# Altium schematic symbol library YTschlib.SchLib: 42 symbols
Pins are listed as number, name and electrical type; pins without a type are passive.

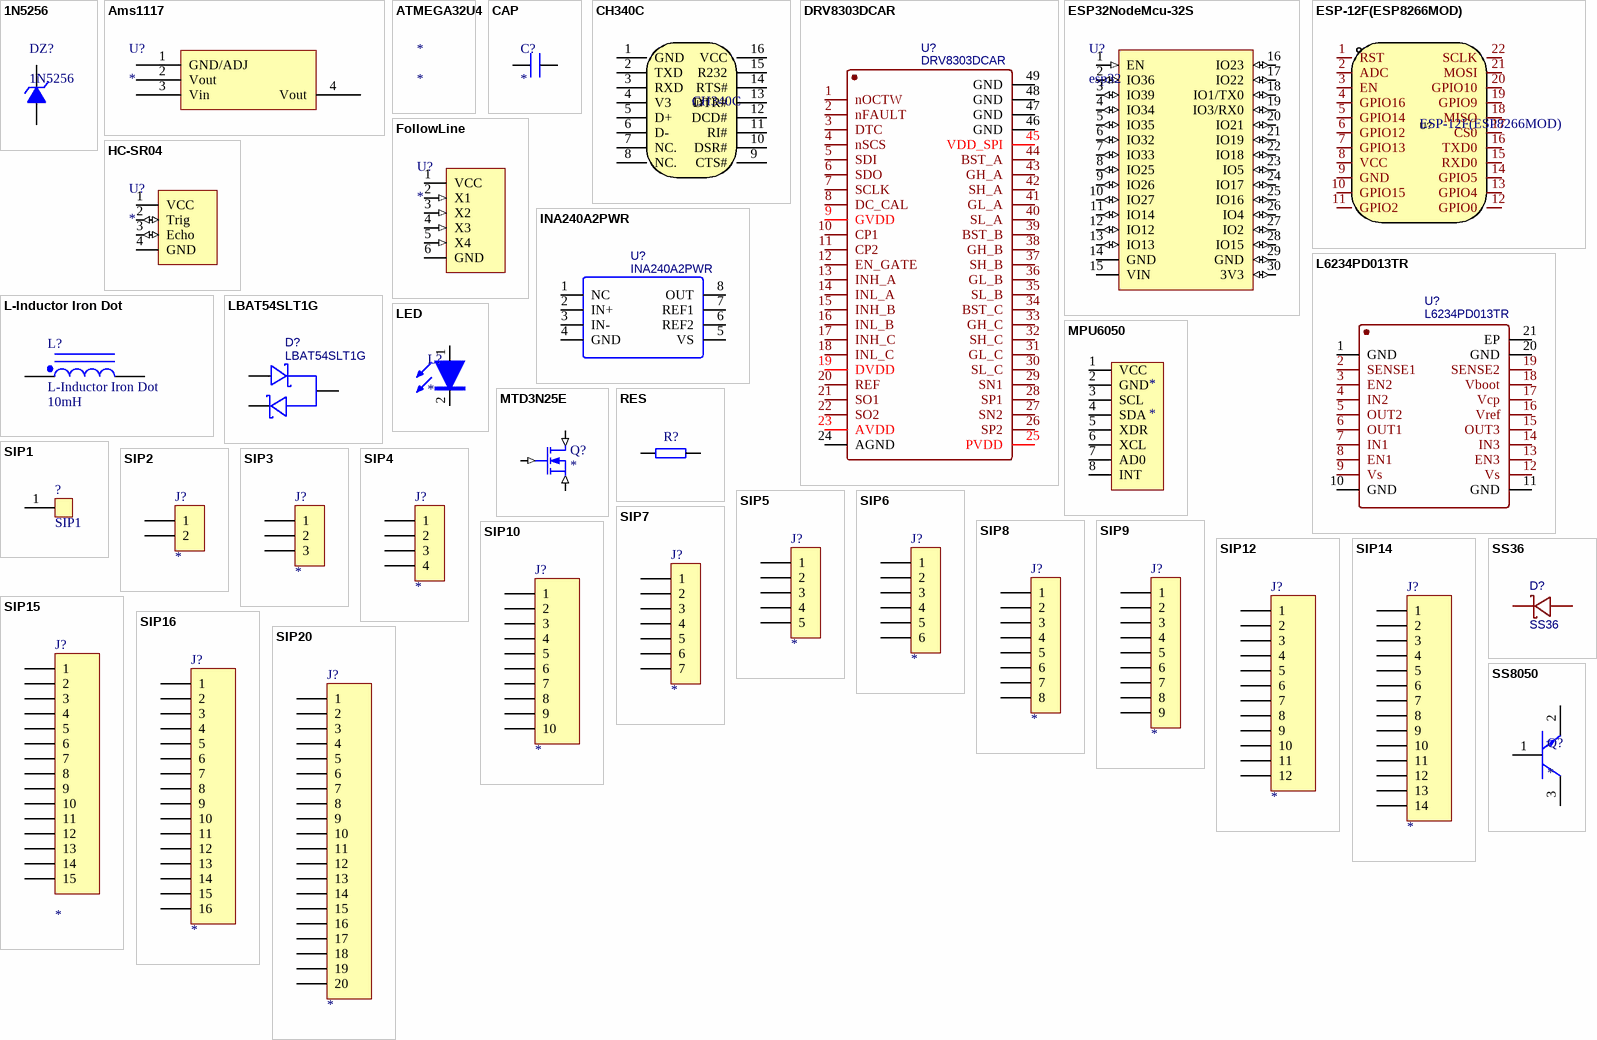
[diagram p0: symbols 1N5256 to SS8050]

## 1N5256
designator DZ?
30V/0.5W稳压管; 版权归属: 源创客; BOM名称: 30V/0.5W稳压管; 学习资源: www.ooocke.com
footprint DO-35 (1.8*6.8mm(直径，脚距）)
footprint DO-213AA (1.5*3.5mm(直径，脚距）)
footprint DO-35V (1.8*2.5mm(直径，脚距）)
pins: 1 A, 2 K

## Ams1117
designator U?
footprint SOT223
pins: 1 GND/ADJ (power), 2 Vout (power), 3 Vin (power), 4 Vout (power)

## ATMEGA32U4
designator *

## CAP
designator C?
电容
pins: 1, 2

## CH340C
designator U?
Manufacturer: WCH(南京沁恒); Add into BOM: yes; Applications Function: Transceiver; Protocol: USB 2.0; Data Rate: 2Mbps; Supply Voltage: 3.3V；5V; Name: CH340C; Symbol: CH340C; Device: CH340C; LCSC Part Name: CH340C; Supplier Part: C84681; Manufacturer Part: CH340C; Supplier Footprint: SOP-16; JLCPCB Part Class: Extended Part; Datasheet: https://atta.szlcsc.com/upload/public/pdf/source/20200819/C84681_ADBED554CE321879DBD6B1D06488689C.pdf; Supplier: LCSC; Convert to PCB: yes
footprint SOP-16_L10.0-W3.9-P1.27-LS6.0-BL
3D model SOP-16_L9.9-W3.9-H1.5-LS6.0-P1.27
pins: 1 GND, 2 TXD, 3 RXD, 4 V3, 5 D+, 6 D-, 7 NC., 8 NC., 9 CTS#, 10 DSR#, 11 RI#, 12 DCD#, 13 DTR#, 14 RTS#, 15 R232, 16 VCC

## DRV8303DCAR
designator U?
BOM_Manufacturer: TI(德州仪器); Contributor: LCSC; BOM_Supplier: LCSC; BOM_Supplier Part: C91880; BOM_Manufacturer Part: DRV8303DCAR; BOM_JLCPCB Part Class: Extended Part; spicePre: U; spiceSymbolName: DRV8303DCAR
footprint HTSSOP-48_L12.5-W6.1-P0.50-LS8.1-BL-EP
pins: 1 nOCTW, 2 nFAULT, 3 DTC, 4 nSCS, 5 SDI, 6 SDO, 7 SCLK, 8 DC_CAL, 9 GVDD, 10 CP1, 11 CP2, 12 EN_GATE, 13 INH_A, 14 INL_A, 15 INH_B, 16 INL_B, 17 INH_C, 18 INL_C, 19 DVDD, 20 REF, 21 SO1, 22 SO2, 23 AVDD, 24 AGND, 25 PVDD, 26 SP2, 27 SN2, 28 SP1, 29 SN1, 30 SL_C, 31 GL_C, 32 SH_C, 33 GH_C, 34 BST_C, 35 SL_B, 36 GL_B, 37 SH_B, 38 GH_B, 39 BST_B, 40 SL_A, 41 GL_A, 42 SH_A, 43 GH_A, 44 BST_A, 45 VDD_SPI, 46 GND, 47 GND, 48 GND, 49 GND

## ESP32NodeMcu-32S
designator U?, comment esp32
footprint ESP32
pins: 1 EN (in), 2 IO36 (io), 3 IO39 (io), 4 IO34 (io), 5 IO35 (io), 6 IO32 (io), 7 IO33 (io), 8 IO25 (io), 9 IO26 (io), 10 IO27 (io), 11 IO14 (io), 12 IO12 (io), 13 IO13 (io), 14 GND (power), 15 VIN (power), 16 IO23 (io), 17 IO22 (io), 18 IO1/TX0 (io), 19 IO3/RX0 (io), 20 IO21 (io), 21 IO19 (io), 22 IO18 (io), 23 IO5 (io), 24 IO17 (io), 25 IO16 (io), 26 IO4 (io), 27 IO2 (io), 28 IO15 (io), 29 GND (io), 30 3V3 (io)

## ESP-12F(ESP8266MOD)
designator U?
Manufacturer: Ai-Thinker(安信可); Name: 2.4GHz; Add into BOM: yes; Value: 2.4GHz; Output Power: 16dBm; Support Interface: GPIO；UART；IIC；PWM；SPI；ADC; Antenna Type: PCB 板载天线; Wireless Standard: 802.11b/g/n; Operating Voltage: 3.3V; Receive  Current: 120mA; Send  Current: 170mA; Sensitivity: -90dBm; Symbol: ESP-12F(ESP8266MOD); Device: ESP-12F(ESP8266MOD); LCSC Part Name: ESP-12F(ESP8266MOD); Supplier Part: C82891; Manufacturer Part: ESP-12F(ESP8266MOD); Supplier Footprint: WIFI Module; JLCPCB Part Class: Extended Part; Datasheet: https://atta.szlcsc.com/upload/public/pdf/source/20210219/C82891_ABD84A460F4F056A2757267CCCA4B508.pdf; Supplier: LCSC; Convert to PCB: yes; Core Processor: ESP8266; Operating Temperature: -40℃~+85℃
footprint WIFIM-SMD_ESP-12F-ESP8266MOD
3D model WIFIM-SMD_WIFI-L24.0-W16.0-H3.1
pins: 1 RST, 2 ADC, 3 EN, 4 GPIO16, 5 GPIO14, 6 GPIO12, 7 GPIO13, 8 VCC, 9 GND, 10 GPIO15, 11 GPIO2, 12 GPIO0, 13 GPIO4, 14 GPIO5, 15 RXD0, 16 TXD0, 17 CS0, 18 MISO, 19 GPIO9, 20 GPIO10, 21 MOSI, 22 SCLK

## FollowLine
designator U?
footprint XH2.54-WS-6P (长：20mm，宽：8mm，高：6.1mm)
pins: 1 VCC (power), 2 X1 (in), 3 X2 (in), 4 X3 (in), 5 X4 (in), 6 GND (power)

## HC-SR04
designator U?
pins: 1 VCC (power), 2 Trig (io), 3 Echo (io), 4 GND (power)

## INA240A2PWR
designator U?
BOM_Manufacturer: TI; Contributor: LCSC; BOM_Paste Type: expand; BOM_Supplier: LCSC; BOM_Manufacturer Part: INA240A2PWR; BOM_Supplier Part: C129949; spicePre: U; spiceSymbolName: INA240A2PWR
footprint TSSOP-8_L4.4-W3.0-P0.65-LS6.4-BL
pins: 1 NC, 2 IN+, 3 IN-, 4 GND, 5 VS, 6 REF2, 7 REF1, 8 OUT

## L6234PD013TR
designator U?
BOM_Manufacturer: STMicroelectronics; BOM_Supplier: LCSC; BOM_Manufacturer Part: L6234PD013TR; BOM_Supplier Part: C77581; spicePre: U; spiceSymbolName: L6234PD013TR
footprint POWERSO20_L15.9-W11.0-P1.27-LS14.2-BL-EP
pins: 1 GND, 2 SENSE1, 3 EN2, 4 IN2, 5 OUT2, 6 OUT1, 7 IN1, 8 EN1, 9 Vs, 10 GND, 11 GND, 12 Vs, 13 EN3, 14 IN3, 15 OUT3, 16 Vref, 17 Vcp, 18 Vboot, 19 SENSE2, 20 GND, 21 EP

## L-Inductor Iron Dot
designator L?  value 10mH
Magnetic-Core Inductor with Winding Polarity Marking; Published: 24-Mar-1999; LatestRevisionDate: 17-Jul-2002; LatestRevisionNote: Re-released for DXP Platform.; PackageReference: DIODE_SMC; Publisher: Altium Limited
footprint DIODE_SMC (Magnetic-Core Inductor with Winding Polarity Marking; 2 Leads)
signal-integrity model Inductor Iron Dot
pins: 1, 2

## LBAT54SLT1G
designator D?
BOM_Manufacturer: LRC; SMT Type: Extend; BOM_Supplier: LCSC; BOM_Manufacturer Part: LBAT54SLT1G; image: //image.lceda.cn/szlcsc/C12765.jpg; BOM_Supplier Part: C12765; BOM_JLCPCB SMD: Yes; spicePre: D; spiceSymbolName: LBAT54SLT1G
footprint SOT23-3
pins: 1 A, 2 K, 3 AK

## LED
designator L?
pins: 1, 2

## MPU6050
designator *
pins: 1 VCC, 2 GND, 3 SCL, 4 SDA, 5 XDR, 6 XCL, 7 AD0, 8 INT

## MTD3N25E
designator Q?
N-Channel MOSFET
simulation model MTD3N25E (SUBCKT)
pins: 1 D (in), 2 G (in), 3 S (in)
1 alternate drawing of the same symbol

## RES
designator R?
电阻
footprint 0402R (Footprint not found)
pins: 1, 2

## SIP1
designator ?
Variable Resistor; Set Position: 0.5; Published: 8-Jun-2000; LatestRevisionDate: 17-Jul-2002; LatestRevisionNote: Re-released for DXP Platform.; PackageReference: AXIAL-0.6; Publisher: Altium Limited
footprint AXIAL-0.6 (Variable Resistor; 2 Leads)
simulation model VRES (Variable Resistor)
signal-integrity model Res Adj
pins: 1

## SIP2
designator J?
jointbar
footprint XH2.54-WS-2P (长：10mm，宽：8mm，高：6.1mm)
pins: 1, 2

## SIP3
designator J?
jointbar
footprint SIP3-2.0
footprint SIP3-2.54 (Footprint not found)
pins: 1, 2, 3

## SIP4
designator J?
jointbar
footprint SIP4-2.0
footprint SIP4-2.54
pins: 1, 2, 3, 4

## SIP5
designator J?
jointbar
footprint SIP5-2.0
footprint SIP5-2.54
pins: 1, 2, 3, 4, 5

## SIP6
designator J?
jointbar
footprint SIP6-2.0
footprint SIP6-2.54
pins: 1, 2, 3, 4, 5, 6

## SIP7
designator J?
jointbar
footprint SIP7-2.0
footprint SIP7-2.54
pins: 1, 2, 3, 4, 5, 6, 7

## SIP8
designator J?
jointbar
footprint SIP8-2.0
footprint SIP8-2.54
pins: 1, 2, 3, 4, 5, 6, 7, 8

## SIP9
designator J?
jointbar
footprint SIP9-2.0
footprint SIP9-2.54
pins: 1, 2, 3, 4, 5, 6, 7, 8, 9

## SIP10
designator J?
jointbar
footprint SIP10-2.54
pins: 1, 2, 3, 4, 5, 6, 7, 8, 9, 10

## SIP12
designator J?
jointbar
footprint SIP12-2.54
pins: 1, 2, 3, 4, 5, 6, 7, 8, 9, 10, 11, 12

## SIP14
designator J?
jointbar
footprint SIP14-2.54
pins: 1, 2, 3, 4, 5, 6, 7, 8, 9, 10, 11, 12, 13, 14

## SIP15
designator J?
jointbar
footprint SIP16-2.54
pins: 1, 2, 3, 4, 5, 6, 7, 8, 9, 10, 11, 12, 13, 14, 15

## SIP16
designator J?
jointbar
footprint SIP16-2.54
pins: 1, 2, 3, 4, 5, 6, 7, 8, 9, 10, 11, 12, 13, 14, 15, 16

## SIP20
designator J?
jointbar
footprint SIP20-2.54
pins: 1, 2, 3, 4, 5, 6, 7, 8, 9, 10, 11, 12, 13, 14, 15, 16, 17, 18, 19, 20

## SS36
designator D?
BOM_Manufacturer: MDD; BOM_Paste Type: expand; BOM_Supplier: LCSC; BOM_Manufacturer Part: SS36; image: //image.lceda.cn/szlcsc/C16015.jpg; BOM_Supplier Part: C16015; spicePre: D; spiceSymbolName: SS36
footprint SMA_L4.3-W2.6-LS5.2-RD
pins: 1 K, 2 A

## SS8050
designator Q?
pins: 1 B, 2 E, 3 C

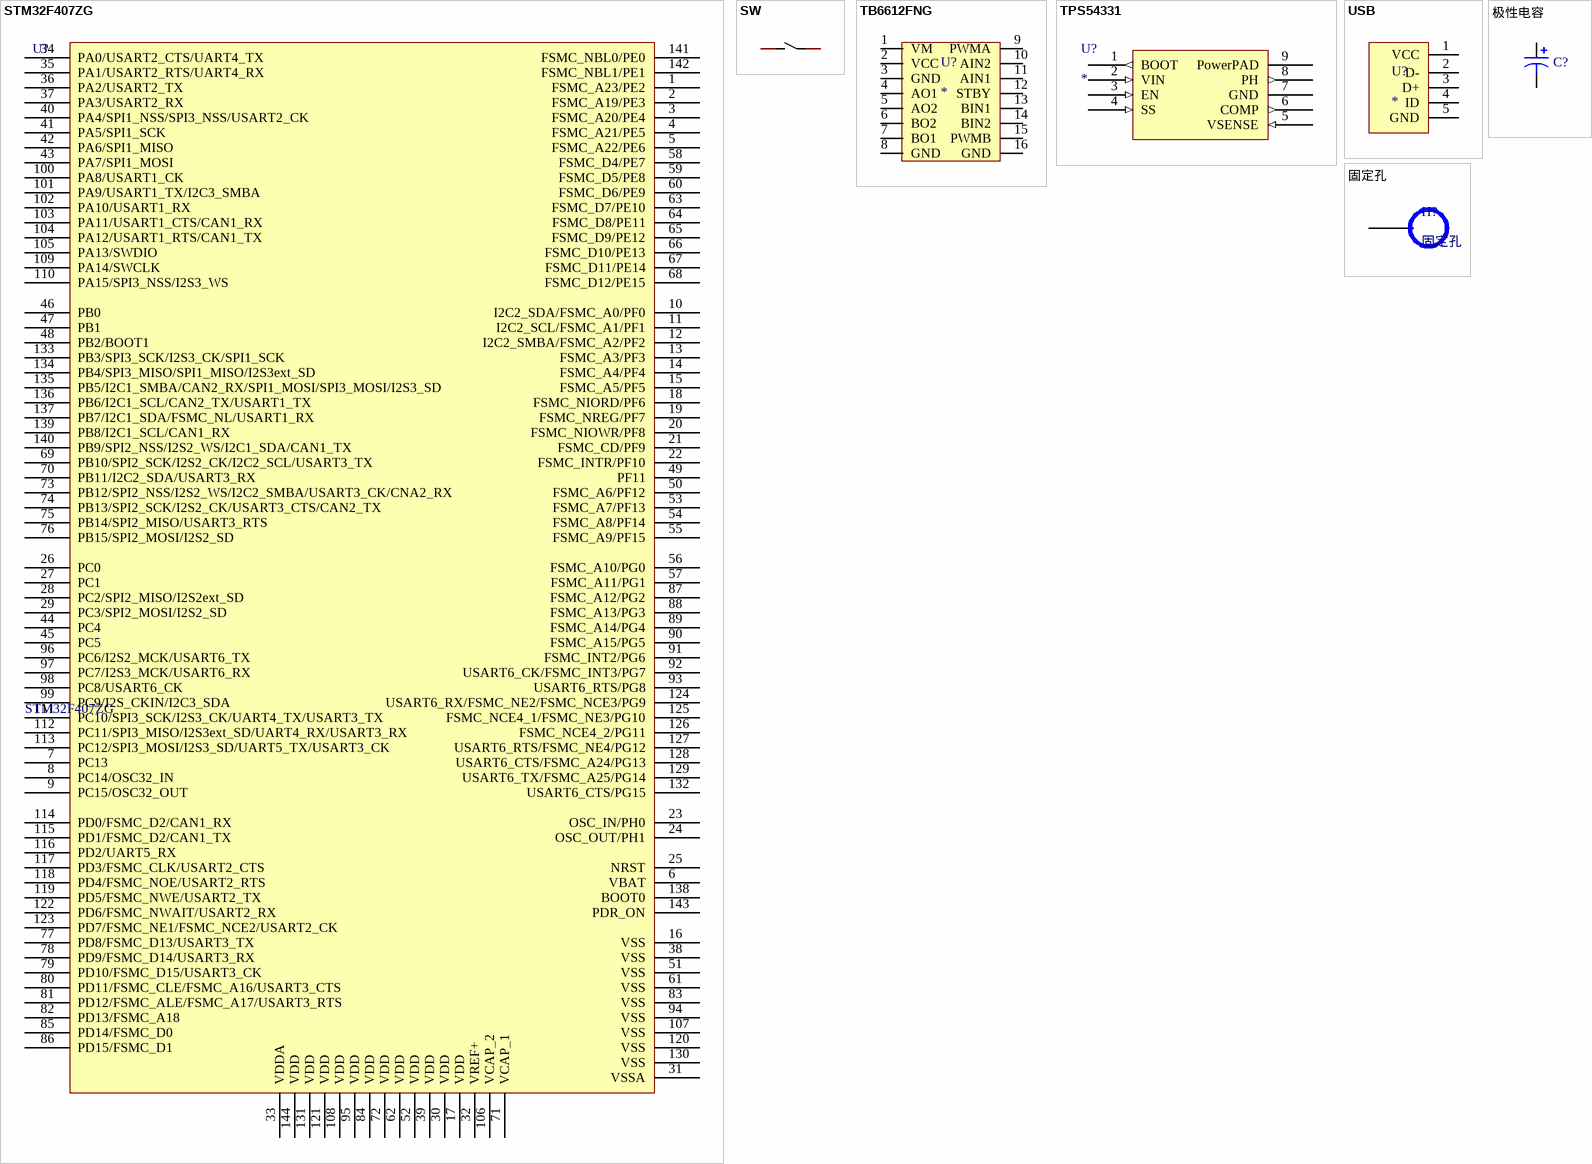
[diagram p1: symbols STM32F407ZG to 极性电容]

## STM32F407ZG
designator U?
Flaah:1024/RAM:192/IO:114; BOM名称: 32位ST单片机; 版权归属: 源创客; 学习资源: www.ooocke.com
footprint LQFP144 20X20_L (144脚，体宽20x20mm，脚距0.5mm)
footprint LQFP144 20X20_M (144脚，体宽20x20mm，脚距0.5mm)
footprint LQFP144 20X20_N (144脚，体宽20x20mm，脚距0.5mm)
pins: 1 FSMC_A23/PE2, 2 FSMC_A19/PE3, 3 FSMC_A20/PE4, 4 FSMC_A21/PE5, 5 FSMC_A22/PE6, 6 VBAT, 7 PC13, 8 PC14/OSC32_IN, 9 PC15/OSC32_OUT, 10 I2C2_SDA/FSMC_A0/PF0, 11 I2C2_SCL/FSMC_A1/PF1, 12 I2C2_SMBA/FSMC_A2/PF2, 13 FSMC_A3/PF3, 14 FSMC_A4/PF4, 15 FSMC_A5/PF5, 16 VSS, 17 VDD, 18 FSMC_NIORD/PF6, 19 FSMC_NREG/PF7, 20 FSMC_NIOWR/PF8, 21 FSMC_CD/PF9, 22 FSMC_INTR/PF10, 23 OSC_IN/PH0, 24 OSC_OUT/PH1, 25 NRST, 26 PC0, 27 PC1, 28 PC2/SPI2_MISO/I2S2ext_SD, 29 PC3/SPI2_MOSI/I2S2_SD, 30 VDD, 31 VSSA, 32 VREF+, 33 VDDA, 34 PA0/USART2_CTS/UART4_TX, 35 PA1/USART2_RTS/UART4_RX, 36 PA2/USART2_TX, 37 PA3/USART2_RX, 38 VSS, 39 VDD, 40 PA4/SPI1_NSS/SPI3_NSS/USART2_CK, 41 PA5/SPI1_SCK, 42 PA6/SPI1_MISO, 43 PA7/SPI1_MOSI, 44 PC4, 45 PC5, 46 PB0, 47 PB1, 48 PB2/BOOT1, 49 PF11, 50 FSMC_A6/PF12, 51 VSS, 52 VDD, 53 FSMC_A7/PF13, 54 FSMC_A8/PF14, 55 FSMC_A9/PF15, 56 FSMC_A10/PG0, 57 FSMC_A11/PG1, 58 FSMC_D4/PE7, 59 FSMC_D5/PE8, 60 FSMC_D6/PE9, 61 VSS, 62 VDD, 63 FSMC_D7/PE10, 64 FSMC_D8/PE11, 65 FSMC_D9/PE12, 66 FSMC_D10/PE13, 67 FSMC_D11/PE14, 68 FSMC_D12/PE15, 69 PB10/SPI2_SCK/I2S2_CK/I2C2_SCL/USART3_TX, 70 PB11/I2C2_SDA/USART3_RX, 71 VCAP_1, 72 VDD, 73 PB12/SPI2_NSS/I2S2_WS/I2C2_SMBA/USART3_CK/CNA2_RX, 74 PB13/SPI2_SCK/I2S2_CK/USART3_CTS/CAN2_TX, 75 PB14/SPI2_MISO/USART3_RTS, 76 PB15/SPI2_MOSI/I2S2_SD, 77 PD8/FSMC_D13/USART3_TX, 78 PD9/FSMC_D14/USART3_RX, 79 PD10/FSMC_D15/USART3_CK, 80 PD11/FSMC_CLE/FSMC_A16/USART3_CTS, 81 PD12/FSMC_ALE/FSMC_A17/USART3_RTS, 82 PD13/FSMC_A18, 83 VSS, 84 VDD, 85 PD14/FSMC_D0, 86 PD15/FSMC_D1, 87 FSMC_A12/PG2, 88 FSMC_A13/PG3, 89 FSMC_A14/PG4, 90 FSMC_A15/PG5, 91 FSMC_INT2/PG6, 92 USART6_CK/FSMC_INT3/PG7, 93 USART6_RTS/PG8, 94 VSS, 95 VDD, 96 PC6/I2S2_MCK/USART6_TX, 97 PC7/I2S3_MCK/USART6_RX, 98 PC8/USART6_CK, 99 PC9/I2S_CKIN/I2C3_SDA, 100 PA8/USART1_CK, 101 PA9/USART1_TX/I2C3_SMBA, 102 PA10/USART1_RX, 103 PA11/USART1_CTS/CAN1_RX, 104 PA12/USART1_RTS/CAN1_TX, 105 PA13/SWDIO, 106 VCAP_2, 107 VSS, 108 VDD, 109 PA14/SWCLK, 110 PA15/SPI3_NSS/I2S3_WS, 111 PC10/SPI3_SCK/I2S3_CK/UART4_TX/USART3_TX, 112 PC11/SPI3_MISO/I2S3ext_SD/UART4_RX/USART3_RX, 113 PC12/SPI3_MOSI/I2S3_SD/UART5_TX/USART3_CK, 114 PD0/FSMC_D2/CAN1_RX, 115 PD1/FSMC_D2/CAN1_TX, 116 PD2/UART5_RX, 117 PD3/FSMC_CLK/USART2_CTS, 118 PD4/FSMC_NOE/USART2_RTS, 119 PD5/FSMC_NWE/USART2_TX, 120 VSS, 121 VDD, 122 PD6/FSMC_NWAIT/USART2_RX, 123 PD7/FSMC_NE1/FSMC_NCE2/USART2_CK, 124 USART6_RX/FSMC_NE2/FSMC_NCE3/PG9, 125 FSMC_NCE4_1/FSMC_NE3/PG10, 126 FSMC_NCE4_2/PG11, 127 USART6_RTS/FSMC_NE4/PG12, 128 USART6_CTS/FSMC_A24/PG13, 129 USART6_TX/FSMC_A25/PG14, 130 VSS, 131 VDD, 132 USART6_CTS/PG15, 133 PB3/SPI3_SCK/I2S3_CK/SPI1_SCK, 134 PB4/SPI3_MISO/SPI1_MISO/I2S3ext_SD, 135 PB5/I2C1_SMBA/CAN2_RX/SPI1_MOSI/SPI3_MOSI/I2S3_SD, 136 PB6/I2C1_SCL/CAN2_TX/USART1_TX, 137 PB7/I2C1_SDA/FSMC_NL/USART1_RX, 138 BOOT0, 139 PB8/I2C1_SCL/CAN1_RX, 140 PB9/SPI2_NSS/I2S2_WS/I2C1_SDA/CAN1_TX, 141 FSMC_NBL0/PE0, 142 FSMC_NBL1/PE1, 143 PDR_ON, 144 VDD

## SW
designator SW?, comment TS342A2P 250gf-WZ 021_C2987973  (value not drawn)
Manufacturer: SHOU HAN(首韩); Add into BOM: yes; Contact Current: 50mA; Voltage Rating (DC): 12V; Insulation Resistance: 100MΩ; Circuit: 单刀单掷; Actuator Style: 圆形按钮; Actuator/Cap Color: 黑色; Operating Force: 250gf@±50gf; Mechanical Life: 100000; Pin Style: SMD接片; Switch Length: 3.95mm; Switch Width: 2.9mm; Switch Height: 2mm; Strike Gundam: 否; Name: TS342A2P 250gf-WZ 021; Symbol: TS342A2P 250GF-WZ 021_C2987973; Device: TS342A2P 250gf-WZ 021_C2987973; LCSC Part Name: TS342A2P 250gf-WZ 021; Supplier Part: C2987973; Manufacturer Part: TS342A2P 250gf-WZ 021; Supplier Footprint: SMD; JLCPCB Part Class: Extended Part; Datasheet: https://atta.szlcsc.com/upload/public/pdf/source/20211019/B0840D9D2EDA6B165E59EB2CD177CDC8.pdf; Supplier: LCSC; Convert to PCB: yes; Mounting Style: 立贴; Operating Temperature: -20℃~+70℃
footprint SW-SMD_L4.0-W2.9-LS5.0
3D model SW-SMD_L4.0-W2.9-H2-LS5.0
pins: 1, 2

## TB6612FNG
designator U?
pins: 1 VM, 2 VCC, 3 GND, 4 AO1, 5 AO2, 6 BO2, 7 BO1, 8 GND, 9 PWMA, 10 AIN2, 11 AIN1, 12 STBY, 13 BIN1, 14 BIN2, 15 PWMB, 16 GND

## TPS54331
designator U?
footprint TPS54331
pins: 1 BOOT (out), 2 VIN (in), 3 EN (in), 4 SS (in), 5 VSENSE (in), 6 COMP (out), 7 GND (power), 8 PH (out), 9 PowerPAD (power)

## USB
designator U?
pins: 1 VCC, 2 D-, 3 D+, 4 ID, 5 GND

## 固定孔
designator H?
footprint 铜柱孔3
pins: 11

## 极性电容
designator C?
极性电容
footprint B型钽电容_3528_21 (Molded Capacitor, 2-Leads, Body 3.5x2.8mm, IPC Medium Density)
pins: 1, 2